# EAGLE library part SD-503182-003R (library Molex SD-503182-003)
Molex Micro-SD card socket
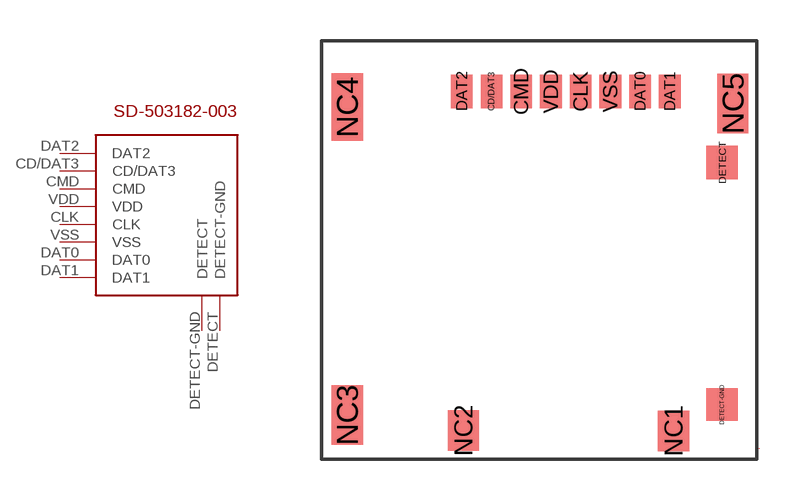
[diagram p1: symbol with the pads of SD-503182-003; footprint SD-503182-003]

Designator prefix -

## SD-503182-003R  [SD-503182-003]
CD/DAT3  CD/DAT3
CLK  CLK
CMD  CMD
DAT0  DAT0
DAT1  DAT1
DAT2  DAT2
DETECT  DETECT-GND
DETECT-GND  DETECT
VDD  VDD
VSS  VSS

## Footprint SD-503182-003 (pad centres in mm)
smd 0.8 x 1.24: CD/DAT3 5.92,-1.88; CLK 9.22,-1.88; CMD 7.02,-1.88; DAT0 11.42,-1.88; DAT1 12.52,-1.88; DAT2 4.82,-1.88; VDD 8.12,-1.88; VSS 10.32,-1.88
smd 1.16 x 1.25: DETECT 14.46,-4.51
smd 1.16 x 1.2: DETECT-GND 14.46,-13.47
smd 1.15 x 1.5: NC1 12.66,-14.44; NC2 4.88,-14.43
smd 1.15 x 2.2: NC3 0.58,-13.85; NC5 14.86,-2.33
smd 1.15 x 2.5: NC4 0.58,-2.46